# Altium footprint library CeleronLib_Connect.PcbLib: 219 footprints (part 3 of 14)
Each footprint in its own frame and in the unit in brackets; x right, y up, seen from the top. Pads: shape width x height; smd on the part's side, far side on the other; paste and mask are expansions set on the pad; w line width, h text height; cw(c..) or ccw(c..) is an arc to the next point about the centre after c.
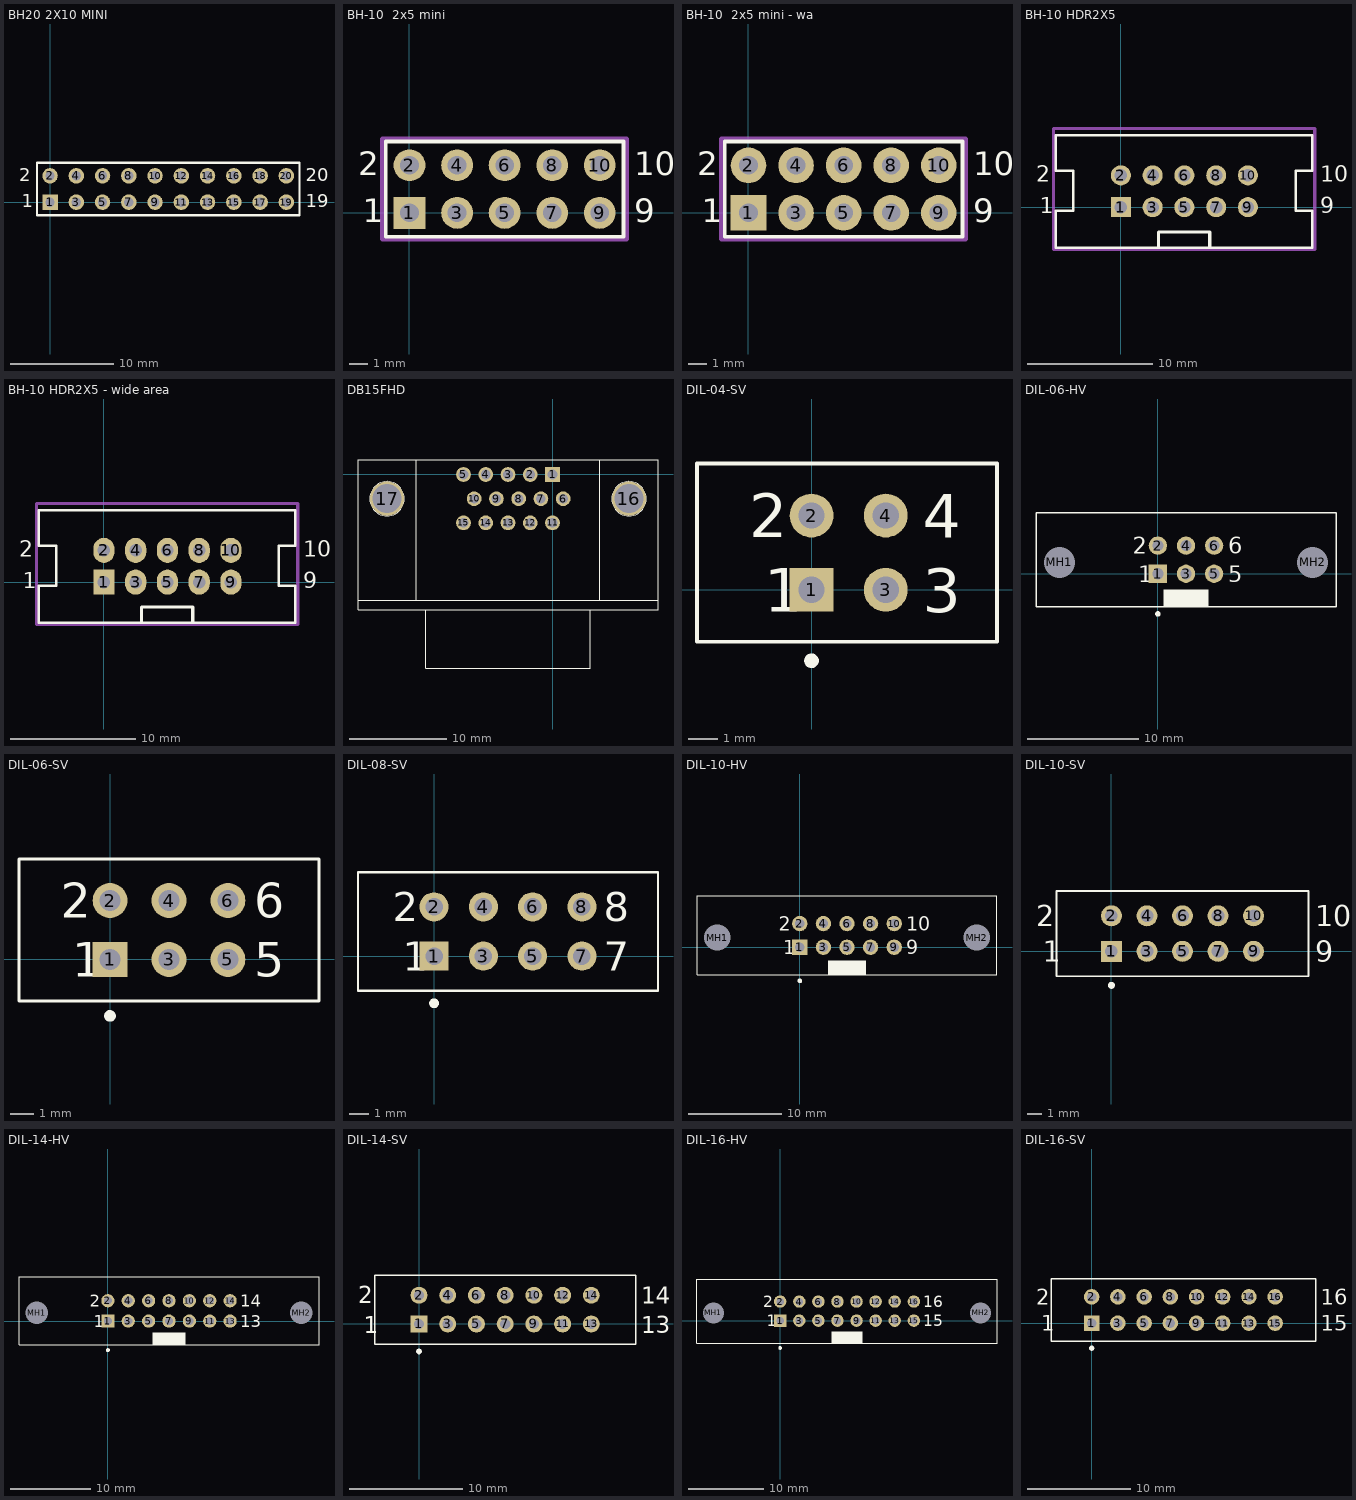
[diagram p2: the footprints below, top view; thin cyan lines are the x and y axes]

## BH20 2X10 MINI [mm] "Connector; Header; 10x2 Position"
pads (20):
  rect 1.5x1.5 hole 0.9: 1(0,0)
  round 1.5 hole 0.9: 2(0,2.54) 3(2.54,0) 4(2.54,2.54) 5(5.08,0) 6(5.08,2.54) 7(7.62,0) 8(7.62,2.54) 9(10.16,0) 10(10.16,2.54) 11(12.7,0) 12(12.7,2.54) 13(15.24,0) 14(15.24,2.54) 15(17.78,0) 16(17.78,2.54) 17(20.32,0) 18(20.32,2.54) 19(22.86,0) 20(22.86,2.54)
Top Overlay:
  lines w0.2: -1.27,-1.27 -1.27,3.81 0.635,3.81 24.13,3.81 24.13,-1.27 0.635,-1.27 -1.27,-1.27
  text "2" at -3,2 h1.27
  text "1" at -2.75,-0.5 h1.27
  text "19" at 24.75,-0.5 h1.27
  text "20" at 24.75,2 h1.27

## BH-10  2x5 mini [mm] "Connector; Header; 5x2 Position"
pads (10):
  rect 1.7x1.7 hole 1: 1(0,0)
  round 1.7 hole 1: 2(0,2.54) 3(2.54,0) 4(2.54,2.54) 5(5.08,0) 6(5.08,2.54) 7(7.62,0) 8(7.62,2.54) 9(10.16,0) 10(10.16,2.54)
Top Overlay:
  lines w0.2: -1.27,-1.27 -1.27,3.81 11.43,3.81 11.43,-1.27 -1.27,-1.27
  text "2" at -2.75,2 h1.27
  text "1" at -2.5,-0.5 h1.27
  text "9" at 12,-0.5 h1.27
  text "10" at 12,2 h1.27
Top Courtyard:
  lines w0.254: -1.45,3.95 -1.45,-1.4 11.6,-1.4 11.6,3.95 -1.4,3.95
3D body: height 9.55, standoff -2.95, extent -1.27,-1.27 11.43,3.81

## BH-10  2x5 mini - wa [mm] "Connector; Header; 5x2 Position"
pads (10):
  rect 1.9x1.9 hole 1: 1(0,0)
  round 1.9 hole 1: 2(0,2.54) 3(2.54,0) 4(2.54,2.54) 5(5.08,0) 6(5.08,2.54) 7(7.62,0) 8(7.62,2.54) 9(10.16,0) 10(10.16,2.54)
Top Overlay:
  lines w0.2: -1.27,-1.27 -1.27,3.81 11.43,3.81 11.43,-1.27 -1.27,-1.27
  text "2" at -2.75,2 h1.27
  text "1" at -2.5,-0.5 h1.27
  text "9" at 12,-0.5 h1.27
  text "10" at 12,2 h1.27
Top Courtyard:
  lines w0.254: -1.45,3.95 -1.45,-1.4 11.6,-1.4 11.6,3.95 -1.4,3.95
3D body: height 9.55, standoff -2.95, extent -1.27,-1.27 11.43,3.81

## BH-10 HDR2X5 [mm] "Connector; Header; 5x2 Position"
pads (10):
  rect 1.6x1.6 hole 1: 1(0,0)
  round 1.6 hole 1: 2(0,2.54) 3(2.54,0) 4(2.54,2.54) 5(5.08,0) 6(5.08,2.54) 7(7.62,0) 8(7.62,2.54) 9(10.16,0) 10(10.16,2.54)
Top Overlay:
  lines w0.2: -5.2,-3.25 -5.2,-0.3 -3.8,-0.3 -3.8,2.9 -5.2,2.9 -5.2,5.75 15.3,5.75 15.3,2.9 14,2.9 14,-0.3 15.3,-0.3 15.3,-3.25 -5.2,-3.25
  lines w0.254: 3,-3.2 3,-2 7.1,-2 7.1,-3.2
  text "2" at -6.79,2.032 h1.27
  text "1" at -6.5,-0.5 h1.27
  text "9" at 15.934,-0.508 h1.27
  text "10" at 15.934,2.032 h1.27
Top Courtyard:
  lines w0.254: -5.4,-3.4 15.5,-3.4 15.5,6.3 -5.4,6.3 -5.4,-3.4
3D body: height 9.45, standoff -3.25, extent -5.1,-3.15 15.3,6.2

## BH-10 HDR2X5 - wide area [mm] "Connector; Header; 5x2 Position"
pads (10):
  rect 1.7x2 hole 1: 1(0,0)
  oval 1.7x2 hole 1: 2(0,2.54) 3(2.54,0) 4(2.54,2.54) 5(5.08,0) 6(5.08,2.54) 7(7.62,0) 8(7.62,2.54) 9(10.16,0) 10(10.16,2.54)
Top Overlay:
  lines w0.2: -5.2,-3.25 15.3,-3.25 15.3,-0.3 14,-0.3 14,2.9 15.3,2.9 15.3,5.75 -5.2,5.75 -5.2,2.9 -3.8,2.9 -3.8,-0.3 -5.2,-0.3 -5.2,-3.25
  lines w0.254: 3,-3.2 3,-2 7.1,-2 7.1,-3.2
  text "10" at 15.934,2.032 h1.27
  text "9" at 15.934,-0.508 h1.27
  text "1" at -6.5,-0.5 h1.27
  text "2" at -6.79,2.032 h1.27
Top Courtyard:
  lines w0.254: -5.4,-3.4 15.5,-3.4 15.5,6.3 -5.4,6.3 -5.4,-3.4
3D body: height 9.45, standoff -3.25, extent -5.1,-3.15 15.3,6.2

## DB15FHD [mil] "VGA 15 DSUB FEMALE"
pads (17):
  rect 60x60 hole 39.37: 1(0,0)
  round 60 hole 39.37: 2(-90.55,0) 3(-181.1,0) 4(-271.66,0) 5(-362.21,0) 6(43.31,-98.43) 7(-47.25,-98.43) 8(-137.8,-98.43) 9(-228.35,-98.43) 10(-318.9,-98.43) 11(0,-196.86) 12(-90.55,-196.86) 13(-181.1,-196.86) 14(-271.66,-196.86) 15(-362.21,-196.86)
  round 140 hole 118.11: 16(311.02,-98.43) 17(-673.23,-98.43)
Top Overlay:
  circle w5: c311.02,-98.43 r70
  circle w5: c-673.23,-98.43 r70
  lines w5: -791.34,-511.82 429.13,-511.82 ; -744.1,-98.43 -602.36,-98.43 ; -673.23,-169.3 -673.23,-27.56 ; -555.12,-511.82 -555.12,59.05 ; -515.75,-551.19 -515.75,-787.41 153.54,-787.41 153.54,-551.19 ; 192.91,-511.82 192.91,59.05 ; 240.16,-98.43 381.89,-98.43 ; 311.02,-169.3 311.02,-27.56 ; -791.34,-551.19 -791.34,59.05 429.13,59.05 429.13,-551.19 -791.34,-551.19

## DIL-04-SV [mm] "Connector; IDC, PCB Transition - 2 Rows, Thru-Hole; 4 Position; Vertical; Pitch 2.54 mm; Body 10.38 x 6.1 x 7.45 mm (LxWxH)"
height 7.45
pads (4):
  rect 1.5x1.5 hole 0.9: 1(0,0)
  round 1.5 hole 0.9: 2(0,2.54) 3(2.54,0) 4(2.54,2.54)
Top Overlay:
  circle w0.25: c0,-2.43 r0.125
  lines w0.127: -3.92,-1.78 6.348,-1.78 6.348,4.32 -3.92,4.32 -3.92,-1.78
  text "3" at 3.81,-0.762 h1.5
  text "4" at 3.81,1.778 h1.5
  text "1" at -1.625,-0.75 h1.5
  text "2" at -2.125,1.79 h1.5

## DIL-06-HV [mm] "Connector; IDC, Thru-Hole; 6 Position; Vertical; Pitch 2.54 mm; Body 26.90 x 8.5 x 17.30 mm (LxWxH), Without locking levers"
height 17.3
pads (8):
  rect 1.65x1.65 hole 1: 1(0,0)
  round 1.65 hole 1: 2(0,2.54) 3(2.54,0) 4(2.54,2.54) 5(5.08,0) 6(5.08,2.54)
  round 2.5 hole 2.8 unplated: MH1(-8.89,1.02) MH2(13.97,1.02)
Top Overlay:
  circle w0.25: c0,-3.63 r0.125
  rectangle: 0.49,-2.98 4.59,-1.43
  lines w0.127: -11.01,-2.98 16.09,-2.98 16.09,5.52 -11.01,5.52 -11.01,-2.98
  text "5" at 6.36,-0.75 h1.5
  text "6" at 6.36,1.79 h1.5
  text "1" at -1.78,-0.75 h1.5
  text "2" at -2.28,1.79 h1.5

## DIL-06-SV [mm] "Connector; IDC, PCB Transition - 2 Rows, Thru-Hole; 6 Position; Vertical; Pitch 2.54 mm; Body 12.92 x 6.1 x 7.45 mm (LxWxH)"
height 7.45
pads (6):
  rect 1.5x1.5 hole 0.9: 1(0,0)
  round 1.5 hole 0.9: 2(0,2.54) 3(2.54,0) 4(2.54,2.54) 5(5.08,0) 6(5.08,2.54)
Top Overlay:
  circle w0.25: c0,-2.43 r0.125
  lines w0.127: -3.92,-1.78 -3.92,4.32 9,4.32 9,-1.78 -3.92,-1.78
  text "2" at -2.125,1.79 h1.5
  text "1" at -1.625,-0.75 h1.5
  text "6" at 6.205,1.79 h1.5
  text "5" at 6.205,-0.75 h1.5

## DIL-08-SV [mm] "Connector; IDC, PCB Transition - 2 Rows, Thru-Hole; 8 Position; Vertical; Pitch 2.54 mm; Body 15.46 x 6.1 x 7.45 mm (LxWxH)"
height 7.45
pads (8):
  rect 1.5x1.5 hole 0.9: 1(0,0)
  round 1.5 hole 0.9: 2(0,2.54) 3(2.54,0) 4(2.54,2.54) 5(5.08,0) 6(5.08,2.54) 7(7.62,0) 8(7.62,2.54)
Top Overlay:
  circle w0.25: c0,-2.43 r0.125
  lines w0.127: -3.92,-1.78 11.54,-1.78 11.54,4.32 -3.92,4.32 -3.92,-1.78
  text "7" at 8.745,-0.75 h1.5
  text "8" at 8.745,1.79 h1.5
  text "1" at -1.625,-0.75 h1.5
  text "2" at -2.125,1.79 h1.5

## DIL-10-HV [mm] "Connector; IDC, Thru-Hole; 10 Position; Vertical; Pitch 2.54 mm; Body 32.30 x 8.5 x 17.30 mm (LxWxH), Without locking levers"
height 17.3
pads (12):
  rect 1.65x1.65 hole 1: 1(0,0)
  round 1.65 hole 1: 2(0,2.54) 3(2.54,0) 4(2.54,2.54) 5(5.08,0) 6(5.08,2.54) 7(7.62,0) 8(7.62,2.54) 9(10.16,0) 10(10.16,2.54)
  round 2.5 hole 2.8 unplated: MH1(-8.89,1.02) MH2(19.05,1.02)
Top Overlay:
  circle w0.25: c0,-3.63 r0.125
  rectangle: 3.03,-2.98 7.13,-1.43
  lines w0.127: -11.07,-2.98 -11.07,5.52 21.23,5.52 21.23,-2.98 -11.07,-2.98
  text "2" at -2.28,1.79 h1.5
  text "1" at -1.78,-0.75 h1.5
  text "10" at 11.44,1.79 h1.5
  text "9" at 11.44,-0.75 h1.5

## DIL-10-SV [mm] "Connector; IDC, PCB Transition - 2 Rows, Thru-Hole; 10 Position; Vertical; Pitch 2.54 mm; Body 18.00 x 6.1 x 7.45 mm (LxWxH)"
height 7.45
pads (10):
  rect 1.5x1.5 hole 0.9: 1(0,0)
  round 1.5 hole 0.9: 2(0,2.54) 3(2.54,0) 4(2.54,2.54) 5(5.08,0) 6(5.08,2.54) 7(7.62,0) 8(7.62,2.54) 9(10.16,0) 10(10.16,2.54)
Top Overlay:
  circle w0.25: c0,-2.43 r0.125
  lines w0.127: -3.92,-1.78 14.08,-1.78 14.08,4.32 -3.92,4.32 -3.92,-1.78
  text "9" at 14.555,-0.75 h1.5
  text "10" at 14.555,1.79 h1.5
  text "1" at -4.895,-0.75 h1.5
  text "2" at -5.395,1.79 h1.5

## DIL-14-HV [mm] "Connector; IDC, Thru-Hole; 14 Position; Vertical; Pitch 2.54 mm; Body 37.40 x 8.5 x 17.30 mm (LxWxH), Without locking levers"
height 17.3
pads (16):
  rect 1.65x1.65 hole 1: 1(0,0)
  round 1.65 hole 1: 2(0,2.54) 3(2.54,0) 4(2.54,2.54) 5(5.08,0) 6(5.08,2.54) 7(7.62,0) 8(7.62,2.54) 9(10.16,0) 10(10.16,2.54) 11(12.7,0) 12(12.7,2.54) 13(15.24,0) 14(15.24,2.54)
  round 2.5 hole 2.8 unplated: MH1(-8.89,1.02) MH2(24.13,1.02)
Top Overlay:
  circle w0.25: c0,-3.63 r0.125
  rectangle: 5.57,-2.98 9.67,-1.43
  lines w0.127: -11.08,-2.98 26.32,-2.98 26.32,5.52 -11.08,5.52 -11.08,-2.98
  text "13" at 16.52,-0.75 h1.5
  text "14" at 16.52,1.79 h1.5
  text "1" at -1.78,-0.75 h1.5
  text "2" at -2.28,1.79 h1.5

## DIL-14-SV [mm] "Connector; IDC, PCB Transition - 2 Rows, Thru-Hole; 14 Position; Vertical; Pitch 2.54 mm; Body 23.08 x 6.1 x 7.45 mm (LxWxH)"
height 7.45
pads (14):
  rect 1.5x1.5 hole 0.9: 1(0,0)
  round 1.5 hole 0.9: 2(0,2.54) 3(2.54,0) 4(2.54,2.54) 5(5.08,0) 6(5.08,2.54) 7(7.62,0) 8(7.62,2.54) 9(10.16,0) 10(10.16,2.54) 11(12.7,0) 12(12.7,2.54) 13(15.24,0) 14(15.24,2.54)
Top Overlay:
  circle w0.25: c0,-2.43 r0.125
  lines w0.127: -3.92,-1.78 -3.92,4.32 19.16,4.32 19.16,-1.78 -3.92,-1.78
  text "2" at -5.395,1.84 h1.5
  text "1" at -4.895,-0.8 h1.5
  text "14" at 19.635,1.8 h1.5
  text "13" at 19.635,-0.83 h1.5

## DIL-16-HV [mm] "Connector; IDC, Thru-Hole; 16 Position; Vertical; Pitch 2.54 mm; Body 39.90 x 8.5 x 17.30 mm (LxWxH), Without locking levers"
height 17.3
pads (18):
  rect 1.65x1.65 hole 1: 1(0,0)
  round 1.65 hole 1: 2(0,2.54) 3(2.54,0) 4(2.54,2.54) 5(5.08,0) 6(5.08,2.54) 7(7.62,0) 8(7.62,2.54) 9(10.16,0) 10(10.16,2.54) 11(12.7,0) 12(12.7,2.54) 13(15.24,0) 14(15.24,2.54) 15(17.78,0) 16(17.78,2.54)
  round 2.5 hole 2.8 unplated: MH1(-8.89,1.02) MH2(26.67,1.02)
Top Overlay:
  circle w0.25: c0,-3.63 r0.125
  rectangle: 6.84,-2.98 10.94,-1.43
  lines w0.127: -11.06,-2.98 -11.06,5.52 28.84,5.52 28.84,-2.98 -11.06,-2.98
  text "2" at -2.28,1.79 h1.5
  text "1" at -1.78,-0.75 h1.5
  text "16" at 19.06,1.79 h1.5
  text "15" at 19.06,-0.75 h1.5

## DIL-16-SV [mm] "Connector; IDC, PCB Transition - 2 Rows, Thru-Hole; 16 Position; Vertical; Pitch 2.54 mm; Body 25.62 x 6.1 x 7.45 mm (LxWxH)"
height 7.45
pads (16):
  rect 1.5x1.5 hole 0.9: 1(0,0)
  round 1.5 hole 0.9: 2(0,2.54) 3(2.54,0) 4(2.54,2.54) 5(5.08,0) 6(5.08,2.54) 7(7.62,0) 8(7.62,2.54) 9(10.16,0) 10(10.16,2.54) 11(12.7,0) 12(12.7,2.54) 13(15.24,0) 14(15.24,2.54) 15(17.78,0) 16(17.78,2.54)
Top Overlay:
  circle w0.25: c0,-2.43 r0.125
  lines w0.127: -3.92,-1.78 21.7,-1.78 21.7,4.32 -3.92,4.32 -3.92,-1.78
  text "15" at 22.175,-0.75 h1.5
  text "16" at 22.175,1.79 h1.5
  text "1" at -4.895,-0.741 h1.5
  text "2" at -5.395,1.79 h1.5